# Altium schematic symbol library 1751581.SchLib: 1 symbol
Pins are listed as number, name and electrical type; pins without a type are passive.

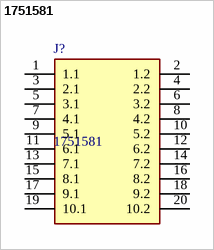
[diagram p0: symbol 1751581]

## 1751581
designator J?
FFKDSA1/V1-5,08-10 - Printed circuit board terminal, nominal current: 15 A, rated voltage (III/2): 400 V, nominal cross section: 1.5 mm<sup>2</sup>, number of potentials: 10, number of rows: 1, number of positions per row: 10, product range: FFKDS(A)/V1, pitch: 5.08 mm, connection method: Push-in spring connection, mounting: Wave soldering, conductor/PCB connection direction: 90 , color: green, Pin layout: Linear pinning, Solder pin [P]: 3.4 mm, number of solder pins per potential: 2, type of packaging: pa; Manufacturer_Name: Phoenix Contact; Geometry.Height: 13.6mm; Manufacturer_Part_Number: 1751581; Mouser Part Number: 651-1751581; Mouser Price/Stock: https://www.mouser.co.uk/ProductDetail/Phoenix-Contact/1751581?qs=5SfROSHwb7CCaVxuhSvzeQ%3D%3D; Arrow Part Number: *; Arrow Price/Stock: *; Datasheet Link: https://www.phoenixcontact.com/en-us/products/printed-circuit-board-terminal-ffkdsa1v1-508-10-1751581?type=pdf
footprint 1751581
pins: 1 1.1, 2 1.2, 3 2.1, 4 2.2, 5 3.1, 6 3.2, 7 4.1, 8 4.2, 9 5.1, 10 5.2, 11 6.1, 12 6.2, 13 7.1, 14 7.2, 15 8.1, 16 8.2, 17 9.1, 18 9.2, 19 10.1, 20 10.2